# Altium integrated library Renesas Power Management Linear.IntLib: 125 symbols (part 1 of 4)
Pins are listed as number, name and electrical type; pins without a type are passive.

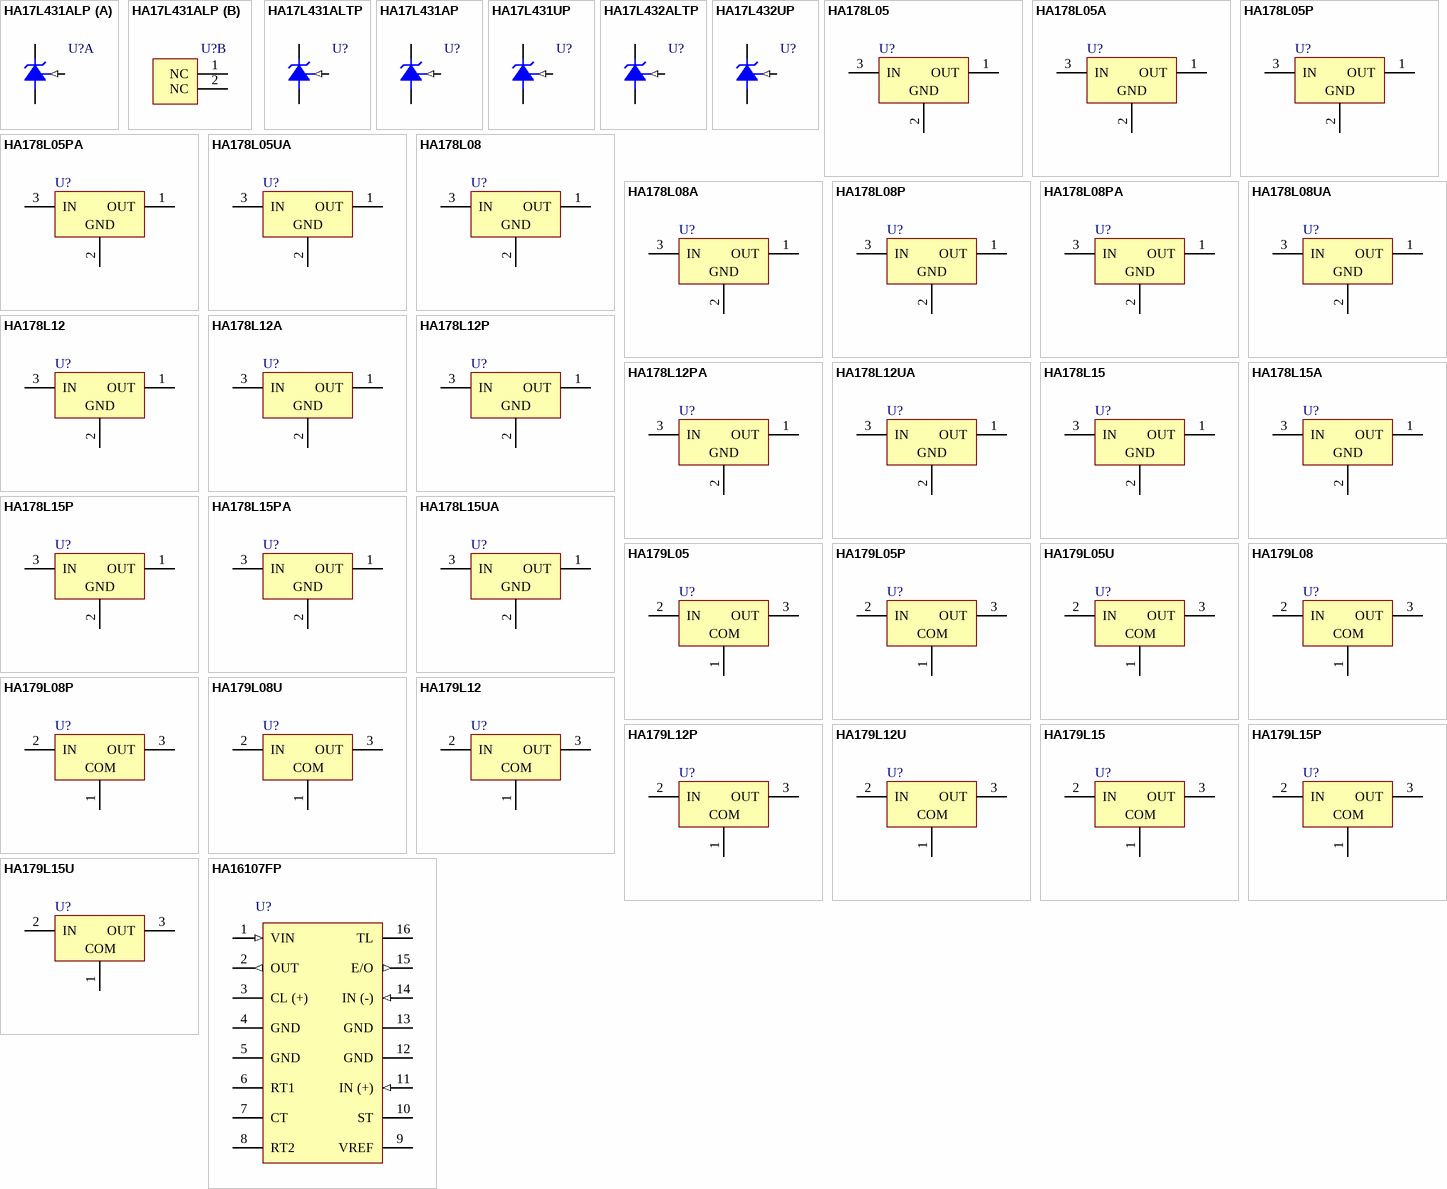
[diagram p0: symbols HA17L431ALP to HA16107FP]

## HA17L431ALP
designator U?
Temperature-Compensated Variable Shunt Regulator, Vref (1.24V ± 1%), VKA (16V), MPAK-5V Package, Industrial Grade; Published: 5-Feb-2010; DatasheetVersion: Rev.6.00, Jun-2005; PackageVersion: Jan-2005; PackageReference: PLSP0005ZB-A; Publisher: Altium Limited; PackageDescription: 5-Lead Plastic Small Outline Transistor, 0.95 mm Pitch, 2.8 mm Lead Span; Code_JEITA: SC-74A; Code_IPC: SOT23-5; ComponentLink1Description: Manufacturer Link; ComponentLink1URL: http://sg.renesas.com/fmwk.jsp?cnt=shunt_regulators_root.jsp&fp=/products/standard_ic/general_purpose_linear/power_management_linear/shunt_regulators/; ComponentLink2Description: Datasheet; ComponentLink2URL: http://documentation.renesas.com/eng/products/linear/rej03d0691_ha17l431.pdf; ComponentLink3Description: Packaging Specification; ComponentLink3URL: http://sg.renesas.com/media/products/common_info/package/pdf/ic/code/plsp0005zb_a.pdf
footprint PLSP0005ZB-A_N (SOT23, 5-Leads, Body 2.95x1.6mm, Pitch 0.95mm, Lead Span 2.7mm, IPC Medium Density)
footprint PLSP0005ZB-A_L (SOT23, 5-Leads, Body 2.95x1.6mm, Pitch 0.95mm, Lead Span 2.7mm, IPC High Density)
footprint PLSP0005ZB-A_M (SOT23, 5-Leads, Body 2.95x1.6mm, Pitch 0.95mm, Lead Span 2.7mm, IPC Low Density)
part A pins: 3 K, 4 REF (in), 5 A
part B pins: 1 NC, 2 NC

## HA17L431ALTP
designator U?
Temperature-Compensated Variable Shunt Regulator, Vref (1.24V ± 1%), VKA (16V), MPAKV Package, Industrial Grade; Published: 5-Feb-2010; DatasheetVersion: Rev.6.00, Jun-2005; PackageVersion: Sep-2005; PackageReference: MPAKV; Publisher: Altium Limited; PackageDescription: 3-Pin Plastic SOT-23 Package 0.95 mm Pitch, 2.8 mm Lead Span (PLSP0003ZB-A); Code_JEITA: SC-59A; ComponentLink1Description: Manufacturer Link; ComponentLink1URL: http://sg.renesas.com/fmwk.jsp?cnt=shunt_regulators_root.jsp&fp=/products/standard_ic/general_purpose_linear/power_management_linear/shunt_regulators/; ComponentLink2Description: Datasheet; ComponentLink2URL: http://documentation.renesas.com/eng/products/linear/rej03d0691_ha17l431.pdf; ComponentLink3Description: Packaging Specification; ComponentLink3URL: http://sg.renesas.com/media/products/common_info/package/pdf/ic/code/plsp0003zb_a.pdf
footprint MPAKV_N (SOT346, 3-Leads, Body 2.9x1.5mm, Pitch 0.95mm, Lead Span 2.8mm, IPC Medium Density)
footprint MPAKV_L (SOT346, 3-Leads, Body 2.9x1.5mm, Pitch 0.95mm, Lead Span 2.8mm, IPC High Density)
footprint MPAKV_M (SOT346, 3-Leads, Body 2.9x1.5mm, Pitch 0.95mm, Lead Span 2.8mm, IPC Low Density)
pins: 1 REF (in), 2 K, 3 A

## HA17L431AP
designator U?
Temperature-Compensated Variable Shunt Regulator, Vref (1.24V ± 1%), VKA (16V), TO-92V Package, Industrial Grade; Published: 5-Feb-2010; DatasheetVersion: Rev.6.00, Jun-2005; PackageVersion: Jan-2005; PackageReference: PRSS0003DA-A; Publisher: Altium Limited; PackageDescription: TO, Flat Index; 3 In-Line, Axial Leads; Body Dia. 4.8mm; Leads 0.55 x 0.5 mm (max); Code_JEITA: SC-43A; ComponentLink1Description: Manufacturer Link; ComponentLink1URL: http://sg.renesas.com/fmwk.jsp?cnt=shunt_regulators_root.jsp&fp=/products/standard_ic/general_purpose_linear/power_management_linear/shunt_regulators/; ComponentLink2Description: Datasheet; ComponentLink2URL: http://documentation.renesas.com/eng/products/linear/rej03d0691_ha17l431.pdf; ComponentLink3Description: Packaging Specification; ComponentLink3URL: http://sg.renesas.com/media/products/common_info/package/pdf/ic/code/prss0003da_a.pdf
footprint PRSS0003DA-A (TO, Flat Index; 3 In-Line, Axial Leads; Body Dia. 4.8mm; Leads 0.55 x 0.5 mm (max))
pins: 1 REF (in), 2 A, 3 K

## HA17L431UP
designator U?
Temperature-Compensated Variable Shunt Regulator, Vref (1.24V ± 1.5%), VKA (16V), UPAKV Package, Industrial Grade; Published: 5-Feb-2010; DatasheetVersion: Rev.6.00, Jun-2005; PackageVersion: Jan-2005; PackageReference: PLZZ0004CA-A; Publisher: Altium Limited; PackageDescription: 3-Pin Plastic SOT-89 Package 1.5 mm Pitch, 4 mm Lead Span; Code_JEITA: SC-62; Code_IPC: SOT89; ComponentLink1Description: Manufacturer Link; ComponentLink1URL: http://sg.renesas.com/fmwk.jsp?cnt=shunt_regulators_root.jsp&fp=/products/standard_ic/general_purpose_linear/power_management_linear/shunt_regulators/; ComponentLink2Description: Datasheet; ComponentLink2URL: http://documentation.renesas.com/eng/products/linear/rej03d0691_ha17l431.pdf; ComponentLink3Description: Packaging Specification; ComponentLink3URL: http://sg.renesas.com/media/products/common_info/package/pdf/ic/code/plzz0004ca_a.pdf
footprint PLZZ0004CA-A_N (SOT89, 3-Leads, Body 4.5x2.5 mm, Pitch 1.5mm, Lead Span 4mm, IPC Medium Density)
footprint PLZZ0004CA-A_L (SOT89, 3-Leads, Body 4.5x2.5 mm, Pitch 1.5mm, Lead Span 4mm, IPC High Density)
footprint PLZZ0004CA-A_M (SOT89, 3-Leads, Body 4.5x2.5 mm, Pitch 1.5mm, Lead Span 4mm, IPC Low Density)
pins: 1 REF (in), 2 A, 3 K

## HA17L432ALTP
designator U?
Temperature-Compensated Variable Shunt Regulator, Vref (1.24V ± 1%), VKA (16V), MPAKV Package, Industrial Grade; Published: 5-Feb-2010; DatasheetVersion: Rev.6.00, Jun-2005; PackageVersion: Sep-2005; PackageReference: MPAKV; Publisher: Altium Limited; PackageDescription: 3-Pin Plastic SOT-23 Package 0.95 mm Pitch, 2.8 mm Lead Span (PLSP0003ZB-A); Code_JEITA: SC-59A; ComponentLink1Description: Manufacturer Link; ComponentLink1URL: http://sg.renesas.com/fmwk.jsp?cnt=shunt_regulators_root.jsp&fp=/products/standard_ic/general_purpose_linear/power_management_linear/shunt_regulators/; ComponentLink2Description: Datasheet; ComponentLink2URL: http://documentation.renesas.com/eng/products/linear/rej03d0691_ha17l431.pdf; ComponentLink3Description: Packaging Specification; ComponentLink3URL: http://sg.renesas.com/media/products/common_info/package/pdf/ic/code/plsp0003zb_a.pdf
footprint MPAKV_N (SOT346, 3-Leads, Body 2.9x1.5mm, Pitch 0.95mm, Lead Span 2.8mm, IPC Medium Density)
footprint MPAKV_L (SOT346, 3-Leads, Body 2.9x1.5mm, Pitch 0.95mm, Lead Span 2.8mm, IPC High Density)
footprint MPAKV_M (SOT346, 3-Leads, Body 2.9x1.5mm, Pitch 0.95mm, Lead Span 2.8mm, IPC Low Density)
pins: 1 K, 2 REF (in), 3 A

## HA17L432UP
designator U?
Temperature-Compensated Variable Shunt Regulator, Vref (1.24V ± 1.5%), VKA (16V), UPAKV Package, Industrial Grade; Published: 5-Feb-2010; DatasheetVersion: Rev.6.00, Jun-2005; PackageVersion: Jan-2005; PackageReference: PLZZ0004CA-A; Publisher: Altium Limited; PackageDescription: 3-Pin Plastic SOT-89 Package 1.5 mm Pitch, 4 mm Lead Span; Code_JEITA: SC-62; Code_IPC: SOT89; ComponentLink1Description: Manufacturer Link; ComponentLink1URL: http://sg.renesas.com/fmwk.jsp?cnt=shunt_regulators_root.jsp&fp=/products/standard_ic/general_purpose_linear/power_management_linear/shunt_regulators/; ComponentLink2Description: Datasheet; ComponentLink2URL: http://documentation.renesas.com/eng/products/linear/rej03d0691_ha17l431.pdf; ComponentLink3Description: Packaging Specification; ComponentLink3URL: http://sg.renesas.com/media/products/common_info/package/pdf/ic/code/plzz0004ca_a.pdf
footprint PLZZ0004CA-A_N (SOT89, 3-Leads, Body 4.5x2.5 mm, Pitch 1.5mm, Lead Span 4mm, IPC Medium Density)
footprint PLZZ0004CA-A_L (SOT89, 3-Leads, Body 4.5x2.5 mm, Pitch 1.5mm, Lead Span 4mm, IPC High Density)
footprint PLZZ0004CA-A_M (SOT89, 3-Leads, Body 4.5x2.5 mm, Pitch 1.5mm, Lead Span 4mm, IPC Low Density)
pins: 1 K, 2 A, 3 REF (in)

## HA178L05
designator U?
3-Terminal Positive Fixed Voltage Regulator, 800mW, 5V ± 8% Output, TO-92MOD Package, Commercial Grade; Published: 5-Feb-2010; DatasheetVersion: Rev.4.00, Jan-2009; PackageVersion: Jan-2005; PackageReference: PRSS0003DC-A; Publisher: Altium Limited; PackageDescription: TO, Flat Index; 3 In-Line, Axial Leads; Body Dia. 4.8mm; Leads 0.55 x 0.5 mm (max); Code_JEITA: SC-51; ComponentLink1Description: Manufacturer Link; ComponentLink1URL: http://sg.renesas.com/fmwk.jsp?cnt=3_terminal_regulators_root.jsp&fp=/products/standard_ic/general_purpose_linear/power_management_linear/3_terminal_regulators/; ComponentLink2Description: Datasheet; ComponentLink2URL: http://documentation.renesas.com/eng/products/linear/rej03d0683_ha178l00.pdf; ComponentLink3Description: Packaging Specification; ComponentLink3URL: http://sg.renesas.com/media/products/common_info/package/pdf/ic/code/prss0003dc_a.pdf
footprint PRSS0003DC-A (TO, Flat Index; 3 In-Line, Axial Leads; Body Dia. 4.8mm; Leads 0.55 x 0.5 mm (max))
pins: 1 OUT, 2 GND (power), 3 IN (power)

## HA178L05A
designator U?
3-Terminal Positive Fixed Voltage Regulator, 800mW, 5V ± 5% Output, TO-92MOD Package, Commercial Grade; Published: 5-Feb-2010; DatasheetVersion: Rev.4.00, Jan-2009; PackageVersion: Jan-2005; PackageReference: PRSS0003DC-A; Publisher: Altium Limited; PackageDescription: TO, Flat Index; 3 In-Line, Axial Leads; Body Dia. 4.8mm; Leads 0.55 x 0.5 mm (max); Code_JEITA: SC-51; ComponentLink1Description: Manufacturer Link; ComponentLink1URL: http://sg.renesas.com/fmwk.jsp?cnt=3_terminal_regulators_root.jsp&fp=/products/standard_ic/general_purpose_linear/power_management_linear/3_terminal_regulators/; ComponentLink2Description: Datasheet; ComponentLink2URL: http://documentation.renesas.com/eng/products/linear/rej03d0683_ha178l00.pdf; ComponentLink3Description: Packaging Specification; ComponentLink3URL: http://sg.renesas.com/media/products/common_info/package/pdf/ic/code/prss0003dc_a.pdf
footprint PRSS0003DC-A (TO, Flat Index; 3 In-Line, Axial Leads; Body Dia. 4.8mm; Leads 0.55 x 0.5 mm (max))
pins: 1 OUT, 2 GND (power), 3 IN (power)

## HA178L05P
designator U?
3-Terminal Positive Fixed Voltage Regulator, 800mW, 5V ± 8% Output, TO-92MOD Package, Industrial Grade; Published: 5-Feb-2010; DatasheetVersion: Rev.4.00, Jan-2009; PackageVersion: Jan-2005; PackageReference: PRSS0003DC-A; Publisher: Altium Limited; PackageDescription: TO, Flat Index; 3 In-Line, Axial Leads; Body Dia. 4.8mm; Leads 0.55 x 0.5 mm (max); Code_JEITA: SC-51; ComponentLink1Description: Manufacturer Link; ComponentLink1URL: http://sg.renesas.com/fmwk.jsp?cnt=3_terminal_regulators_root.jsp&fp=/products/standard_ic/general_purpose_linear/power_management_linear/3_terminal_regulators/; ComponentLink2Description: Datasheet; ComponentLink2URL: http://documentation.renesas.com/eng/products/linear/rej03d0683_ha178l00.pdf; ComponentLink3Description: Packaging Specification; ComponentLink3URL: http://sg.renesas.com/media/products/common_info/package/pdf/ic/code/prss0003dc_a.pdf
footprint PRSS0003DC-A (TO, Flat Index; 3 In-Line, Axial Leads; Body Dia. 4.8mm; Leads 0.55 x 0.5 mm (max))
pins: 1 OUT, 2 GND (power), 3 IN (power)

## HA178L05PA
designator U?
3-Terminal Positive Fixed Voltage Regulator, 800mW, 5V ± 5% Output, TO-92MOD Package, Industrial Grade; Published: 5-Feb-2010; DatasheetVersion: Rev.4.00, Jan-2009; PackageVersion: Jan-2005; PackageReference: PRSS0003DC-A; Publisher: Altium Limited; PackageDescription: TO, Flat Index; 3 In-Line, Axial Leads; Body Dia. 4.8mm; Leads 0.55 x 0.5 mm (max); Code_JEITA: SC-51; ComponentLink1Description: Manufacturer Link; ComponentLink1URL: http://sg.renesas.com/fmwk.jsp?cnt=3_terminal_regulators_root.jsp&fp=/products/standard_ic/general_purpose_linear/power_management_linear/3_terminal_regulators/; ComponentLink2Description: Datasheet; ComponentLink2URL: http://documentation.renesas.com/eng/products/linear/rej03d0683_ha178l00.pdf; ComponentLink3Description: Packaging Specification; ComponentLink3URL: http://sg.renesas.com/media/products/common_info/package/pdf/ic/code/prss0003dc_a.pdf
footprint PRSS0003DC-A (TO, Flat Index; 3 In-Line, Axial Leads; Body Dia. 4.8mm; Leads 0.55 x 0.5 mm (max))
pins: 1 OUT, 2 GND (power), 3 IN (power)

## HA178L05UA
designator U?
3-Terminal Positive Fixed Voltage Regulator, 800mW, 5V ± 5% Output, UPAK Package, Commercial Grade; Published: 5-Feb-2010; DatasheetVersion: Rev.4.00, Jan-2009; PackageVersion: Jan-2005; PackageReference: PLZZ0004CA-A; Publisher: Altium Limited; PackageDescription: 3-Pin Plastic SOT-89 Package 1.5 mm Pitch, 4 mm Lead Span; Code_JEITA: SC-62; Code_IPC: SOT89; ComponentLink1Description: Manufacturer Link; ComponentLink1URL: http://sg.renesas.com/fmwk.jsp?cnt=3_terminal_regulators_root.jsp&fp=/products/standard_ic/general_purpose_linear/power_management_linear/3_terminal_regulators/; ComponentLink2Description: Datasheet; ComponentLink2URL: http://documentation.renesas.com/eng/products/linear/rej03d0683_ha178l00.pdf; ComponentLink3Description: Packaging Specification; ComponentLink3URL: http://sg.renesas.com/media/products/common_info/package/pdf/ic/code/plzz0004ca_a.pdf
footprint PLZZ0004CA-A_N (SOT89, 3-Leads, Body 4.5x2.5 mm, Pitch 1.5mm, Lead Span 4mm, IPC Medium Density)
footprint PLZZ0004CA-A_L (SOT89, 3-Leads, Body 4.5x2.5 mm, Pitch 1.5mm, Lead Span 4mm, IPC High Density)
footprint PLZZ0004CA-A_M (SOT89, 3-Leads, Body 4.5x2.5 mm, Pitch 1.5mm, Lead Span 4mm, IPC Low Density)
pins: 1 OUT, 2 GND (power), 3 IN (power)

## HA178L08
designator U?
3-Terminal Positive Fixed Voltage Regulator, 800mW, 8V ± 8% Output, TO-92MOD Package, Commercial Grade; Published: 5-Feb-2010; DatasheetVersion: Rev.4.00, Jan-2009; PackageVersion: Jan-2005; PackageReference: PRSS0003DC-A; Publisher: Altium Limited; PackageDescription: TO, Flat Index; 3 In-Line, Axial Leads; Body Dia. 4.8mm; Leads 0.55 x 0.5 mm (max); Code_JEITA: SC-51; ComponentLink1Description: Manufacturer Link; ComponentLink1URL: http://sg.renesas.com/fmwk.jsp?cnt=3_terminal_regulators_root.jsp&fp=/products/standard_ic/general_purpose_linear/power_management_linear/3_terminal_regulators/; ComponentLink2Description: Datasheet; ComponentLink2URL: http://documentation.renesas.com/eng/products/linear/rej03d0683_ha178l00.pdf; ComponentLink3Description: Packaging Specification; ComponentLink3URL: http://sg.renesas.com/media/products/common_info/package/pdf/ic/code/prss0003dc_a.pdf
footprint PRSS0003DC-A (TO, Flat Index; 3 In-Line, Axial Leads; Body Dia. 4.8mm; Leads 0.55 x 0.5 mm (max))
pins: 1 OUT, 2 GND (power), 3 IN (power)

## HA178L08A
designator U?
3-Terminal Positive Fixed Voltage Regulator, 800mW, 8V ± 5% Output, TO-92MOD Package, Commercial Grade; Published: 5-Feb-2010; DatasheetVersion: Rev.4.00, Jan-2009; PackageVersion: Jan-2005; PackageReference: PRSS0003DC-A; Publisher: Altium Limited; PackageDescription: TO, Flat Index; 3 In-Line, Axial Leads; Body Dia. 4.8mm; Leads 0.55 x 0.5 mm (max); Code_JEITA: SC-51; ComponentLink1Description: Manufacturer Link; ComponentLink1URL: http://sg.renesas.com/fmwk.jsp?cnt=3_terminal_regulators_root.jsp&fp=/products/standard_ic/general_purpose_linear/power_management_linear/3_terminal_regulators/; ComponentLink2Description: Datasheet; ComponentLink2URL: http://documentation.renesas.com/eng/products/linear/rej03d0683_ha178l00.pdf; ComponentLink3Description: Packaging Specification; ComponentLink3URL: http://sg.renesas.com/media/products/common_info/package/pdf/ic/code/prss0003dc_a.pdf
footprint PRSS0003DC-A (TO, Flat Index; 3 In-Line, Axial Leads; Body Dia. 4.8mm; Leads 0.55 x 0.5 mm (max))
pins: 1 OUT, 2 GND (power), 3 IN (power)

## HA178L08P
designator U?
3-Terminal Positive Fixed Voltage Regulator, 800mW, 8V ± 8% Output, TO-92MOD Package, Industrial Grade; Published: 5-Feb-2010; DatasheetVersion: Rev.4.00, Jan-2009; PackageVersion: Jan-2005; PackageReference: PRSS0003DC-A; Publisher: Altium Limited; PackageDescription: TO, Flat Index; 3 In-Line, Axial Leads; Body Dia. 4.8mm; Leads 0.55 x 0.5 mm (max); Code_JEITA: SC-51; ComponentLink1Description: Manufacturer Link; ComponentLink1URL: http://sg.renesas.com/fmwk.jsp?cnt=3_terminal_regulators_root.jsp&fp=/products/standard_ic/general_purpose_linear/power_management_linear/3_terminal_regulators/; ComponentLink2Description: Datasheet; ComponentLink2URL: http://documentation.renesas.com/eng/products/linear/rej03d0683_ha178l00.pdf; ComponentLink3Description: Packaging Specification; ComponentLink3URL: http://sg.renesas.com/media/products/common_info/package/pdf/ic/code/prss0003dc_a.pdf
footprint PRSS0003DC-A (TO, Flat Index; 3 In-Line, Axial Leads; Body Dia. 4.8mm; Leads 0.55 x 0.5 mm (max))
pins: 1 OUT, 2 GND (power), 3 IN (power)

## HA178L08PA
designator U?
3-Terminal Positive Fixed Voltage Regulator, 800mW, 8V ± 5% Output, TO-92MOD Package, Industrial Grade; Published: 5-Feb-2010; DatasheetVersion: Rev.4.00, Jan-2009; PackageVersion: Jan-2005; PackageReference: PRSS0003DC-A; Publisher: Altium Limited; PackageDescription: TO, Flat Index; 3 In-Line, Axial Leads; Body Dia. 4.8mm; Leads 0.55 x 0.5 mm (max); Code_JEITA: SC-51; ComponentLink1Description: Manufacturer Link; ComponentLink1URL: http://sg.renesas.com/fmwk.jsp?cnt=3_terminal_regulators_root.jsp&fp=/products/standard_ic/general_purpose_linear/power_management_linear/3_terminal_regulators/; ComponentLink2Description: Datasheet; ComponentLink2URL: http://documentation.renesas.com/eng/products/linear/rej03d0683_ha178l00.pdf; ComponentLink3Description: Packaging Specification; ComponentLink3URL: http://sg.renesas.com/media/products/common_info/package/pdf/ic/code/prss0003dc_a.pdf
footprint PRSS0003DC-A (TO, Flat Index; 3 In-Line, Axial Leads; Body Dia. 4.8mm; Leads 0.55 x 0.5 mm (max))
pins: 1 OUT, 2 GND (power), 3 IN (power)

## HA178L08UA
designator U?
3-Terminal Positive Fixed Voltage Regulator, 800mW, 8V ± 5% Output, UPAK Package, Commercial Grade; Published: 5-Feb-2010; DatasheetVersion: Rev.4.00, Jan-2009; PackageVersion: Jan-2005; PackageReference: PLZZ0004CA-A; Publisher: Altium Limited; PackageDescription: 3-Pin Plastic SOT-89 Package 1.5 mm Pitch, 4 mm Lead Span; Code_JEITA: SC-62; Code_IPC: SOT89; ComponentLink1Description: Manufacturer Link; ComponentLink1URL: http://sg.renesas.com/fmwk.jsp?cnt=3_terminal_regulators_root.jsp&fp=/products/standard_ic/general_purpose_linear/power_management_linear/3_terminal_regulators/; ComponentLink2Description: Datasheet; ComponentLink2URL: http://documentation.renesas.com/eng/products/linear/rej03d0683_ha178l00.pdf; ComponentLink3Description: Packaging Specification; ComponentLink3URL: http://sg.renesas.com/media/products/common_info/package/pdf/ic/code/plzz0004ca_a.pdf
footprint PLZZ0004CA-A_N (SOT89, 3-Leads, Body 4.5x2.5 mm, Pitch 1.5mm, Lead Span 4mm, IPC Medium Density)
footprint PLZZ0004CA-A_L (SOT89, 3-Leads, Body 4.5x2.5 mm, Pitch 1.5mm, Lead Span 4mm, IPC High Density)
footprint PLZZ0004CA-A_M (SOT89, 3-Leads, Body 4.5x2.5 mm, Pitch 1.5mm, Lead Span 4mm, IPC Low Density)
pins: 1 OUT, 2 GND (power), 3 IN (power)

## HA178L12
designator U?
3-Terminal Positive Fixed Voltage Regulator, 800mW, 12V ± 8% Output, TO-92MOD Package, Commercial Grade; Published: 5-Feb-2010; DatasheetVersion: Rev.4.00, Jan-2009; PackageVersion: Jan-2005; PackageReference: PRSS0003DC-A; Publisher: Altium Limited; PackageDescription: TO, Flat Index; 3 In-Line, Axial Leads; Body Dia. 4.8mm; Leads 0.55 x 0.5 mm (max); Code_JEITA: SC-51; ComponentLink1Description: Manufacturer Link; ComponentLink1URL: http://sg.renesas.com/fmwk.jsp?cnt=3_terminal_regulators_root.jsp&fp=/products/standard_ic/general_purpose_linear/power_management_linear/3_terminal_regulators/; ComponentLink2Description: Datasheet; ComponentLink2URL: http://documentation.renesas.com/eng/products/linear/rej03d0683_ha178l00.pdf; ComponentLink3Description: Packaging Specification; ComponentLink3URL: http://sg.renesas.com/media/products/common_info/package/pdf/ic/code/prss0003dc_a.pdf
footprint PRSS0003DC-A (TO, Flat Index; 3 In-Line, Axial Leads; Body Dia. 4.8mm; Leads 0.55 x 0.5 mm (max))
pins: 1 OUT, 2 GND (power), 3 IN (power)

## HA178L12A
designator U?
3-Terminal Positive Fixed Voltage Regulator, 800mW, 12V ± 5% Output, TO-92MOD Package, Commercial Grade; Published: 5-Feb-2010; DatasheetVersion: Rev.4.00, Jan-2009; PackageVersion: Jan-2005; PackageReference: PRSS0003DC-A; Publisher: Altium Limited; PackageDescription: TO, Flat Index; 3 In-Line, Axial Leads; Body Dia. 4.8mm; Leads 0.55 x 0.5 mm (max); Code_JEITA: SC-51; ComponentLink1Description: Manufacturer Link; ComponentLink1URL: http://sg.renesas.com/fmwk.jsp?cnt=3_terminal_regulators_root.jsp&fp=/products/standard_ic/general_purpose_linear/power_management_linear/3_terminal_regulators/; ComponentLink2Description: Datasheet; ComponentLink2URL: http://documentation.renesas.com/eng/products/linear/rej03d0683_ha178l00.pdf; ComponentLink3Description: Packaging Specification; ComponentLink3URL: http://sg.renesas.com/media/products/common_info/package/pdf/ic/code/prss0003dc_a.pdf
footprint PRSS0003DC-A (TO, Flat Index; 3 In-Line, Axial Leads; Body Dia. 4.8mm; Leads 0.55 x 0.5 mm (max))
pins: 1 OUT, 2 GND (power), 3 IN (power)

## HA178L12P
designator U?
3-Terminal Positive Fixed Voltage Regulator, 800mW, 12V ± 8% Output, TO-92MOD Package, Industrial Grade; Published: 5-Feb-2010; DatasheetVersion: Rev.4.00, Jan-2009; PackageVersion: Jan-2005; PackageReference: PRSS0003DC-A; Publisher: Altium Limited; PackageDescription: TO, Flat Index; 3 In-Line, Axial Leads; Body Dia. 4.8mm; Leads 0.55 x 0.5 mm (max); Code_JEITA: SC-51; ComponentLink1Description: Manufacturer Link; ComponentLink1URL: http://sg.renesas.com/fmwk.jsp?cnt=3_terminal_regulators_root.jsp&fp=/products/standard_ic/general_purpose_linear/power_management_linear/3_terminal_regulators/; ComponentLink2Description: Datasheet; ComponentLink2URL: http://documentation.renesas.com/eng/products/linear/rej03d0683_ha178l00.pdf; ComponentLink3Description: Packaging Specification; ComponentLink3URL: http://sg.renesas.com/media/products/common_info/package/pdf/ic/code/prss0003dc_a.pdf
footprint PRSS0003DC-A (TO, Flat Index; 3 In-Line, Axial Leads; Body Dia. 4.8mm; Leads 0.55 x 0.5 mm (max))
pins: 1 OUT, 2 GND (power), 3 IN (power)

## HA178L12PA
designator U?
3-Terminal Positive Fixed Voltage Regulator, 800mW, 12V ± 5% Output, TO-92MOD Package, Industrial Grade; Published: 5-Feb-2010; DatasheetVersion: Rev.4.00, Jan-2009; PackageVersion: Jan-2005; PackageReference: PRSS0003DC-A; Publisher: Altium Limited; PackageDescription: TO, Flat Index; 3 In-Line, Axial Leads; Body Dia. 4.8mm; Leads 0.55 x 0.5 mm (max); Code_JEITA: SC-51; ComponentLink1Description: Manufacturer Link; ComponentLink1URL: http://sg.renesas.com/fmwk.jsp?cnt=3_terminal_regulators_root.jsp&fp=/products/standard_ic/general_purpose_linear/power_management_linear/3_terminal_regulators/; ComponentLink2Description: Datasheet; ComponentLink2URL: http://documentation.renesas.com/eng/products/linear/rej03d0683_ha178l00.pdf; ComponentLink3Description: Packaging Specification; ComponentLink3URL: http://sg.renesas.com/media/products/common_info/package/pdf/ic/code/prss0003dc_a.pdf
footprint PRSS0003DC-A (TO, Flat Index; 3 In-Line, Axial Leads; Body Dia. 4.8mm; Leads 0.55 x 0.5 mm (max))
pins: 1 OUT, 2 GND (power), 3 IN (power)

## HA178L12UA
designator U?
3-Terminal Positive Fixed Voltage Regulator, 800mW, 12V ± 5% Output, UPAK Package, Commercial Grade; Published: 5-Feb-2010; DatasheetVersion: Rev.4.00, Jan-2009; PackageVersion: Jan-2005; PackageReference: PLZZ0004CA-A; Publisher: Altium Limited; PackageDescription: 3-Pin Plastic SOT-89 Package 1.5 mm Pitch, 4 mm Lead Span; Code_JEITA: SC-62; Code_IPC: SOT89; ComponentLink1Description: Manufacturer Link; ComponentLink1URL: http://sg.renesas.com/fmwk.jsp?cnt=3_terminal_regulators_root.jsp&fp=/products/standard_ic/general_purpose_linear/power_management_linear/3_terminal_regulators/; ComponentLink2Description: Datasheet; ComponentLink2URL: http://documentation.renesas.com/eng/products/linear/rej03d0683_ha178l00.pdf; ComponentLink3Description: Packaging Specification; ComponentLink3URL: http://sg.renesas.com/media/products/common_info/package/pdf/ic/code/plzz0004ca_a.pdf
footprint PLZZ0004CA-A_N (SOT89, 3-Leads, Body 4.5x2.5 mm, Pitch 1.5mm, Lead Span 4mm, IPC Medium Density)
footprint PLZZ0004CA-A_L (SOT89, 3-Leads, Body 4.5x2.5 mm, Pitch 1.5mm, Lead Span 4mm, IPC High Density)
footprint PLZZ0004CA-A_M (SOT89, 3-Leads, Body 4.5x2.5 mm, Pitch 1.5mm, Lead Span 4mm, IPC Low Density)
pins: 1 OUT, 2 GND (power), 3 IN (power)

## HA178L15
designator U?
3-Terminal Positive Fixed Voltage Regulator, 800mW, 15V ± 8% Output, TO-92MOD Package, Commercial Grade; Published: 5-Feb-2010; DatasheetVersion: Rev.4.00, Jan-2009; PackageVersion: Jan-2005; PackageReference: PRSS0003DC-A; Publisher: Altium Limited; PackageDescription: TO, Flat Index; 3 In-Line, Axial Leads; Body Dia. 4.8mm; Leads 0.55 x 0.5 mm (max); Code_JEITA: SC-51; ComponentLink1Description: Manufacturer Link; ComponentLink1URL: http://sg.renesas.com/fmwk.jsp?cnt=3_terminal_regulators_root.jsp&fp=/products/standard_ic/general_purpose_linear/power_management_linear/3_terminal_regulators/; ComponentLink2Description: Datasheet; ComponentLink2URL: http://documentation.renesas.com/eng/products/linear/rej03d0683_ha178l00.pdf; ComponentLink3Description: Packaging Specification; ComponentLink3URL: http://sg.renesas.com/media/products/common_info/package/pdf/ic/code/prss0003dc_a.pdf
footprint PRSS0003DC-A (TO, Flat Index; 3 In-Line, Axial Leads; Body Dia. 4.8mm; Leads 0.55 x 0.5 mm (max))
pins: 1 OUT, 2 GND (power), 3 IN (power)

## HA178L15A
designator U?
3-Terminal Positive Fixed Voltage Regulator, 800mW, 15V ± 5% Output, TO-92MOD Package, Commercial Grade; Published: 5-Feb-2010; DatasheetVersion: Rev.4.00, Jan-2009; PackageVersion: Jan-2005; PackageReference: PRSS0003DC-A; Publisher: Altium Limited; PackageDescription: TO, Flat Index; 3 In-Line, Axial Leads; Body Dia. 4.8mm; Leads 0.55 x 0.5 mm (max); Code_JEITA: SC-51; ComponentLink1Description: Manufacturer Link; ComponentLink1URL: http://sg.renesas.com/fmwk.jsp?cnt=3_terminal_regulators_root.jsp&fp=/products/standard_ic/general_purpose_linear/power_management_linear/3_terminal_regulators/; ComponentLink2Description: Datasheet; ComponentLink2URL: http://documentation.renesas.com/eng/products/linear/rej03d0683_ha178l00.pdf; ComponentLink3Description: Packaging Specification; ComponentLink3URL: http://sg.renesas.com/media/products/common_info/package/pdf/ic/code/prss0003dc_a.pdf
footprint PRSS0003DC-A (TO, Flat Index; 3 In-Line, Axial Leads; Body Dia. 4.8mm; Leads 0.55 x 0.5 mm (max))
pins: 1 OUT, 2 GND (power), 3 IN (power)

## HA178L15P
designator U?
3-Terminal Positive Fixed Voltage Regulator, 800mW, 15V ± 8% Output, TO-92MOD Package, Industrial Grade; Published: 5-Feb-2010; DatasheetVersion: Rev.4.00, Jan-2009; PackageVersion: Jan-2005; PackageReference: PRSS0003DC-A; Publisher: Altium Limited; PackageDescription: TO, Flat Index; 3 In-Line, Axial Leads; Body Dia. 4.8mm; Leads 0.55 x 0.5 mm (max); Code_JEITA: SC-51; ComponentLink1Description: Manufacturer Link; ComponentLink1URL: http://sg.renesas.com/fmwk.jsp?cnt=3_terminal_regulators_root.jsp&fp=/products/standard_ic/general_purpose_linear/power_management_linear/3_terminal_regulators/; ComponentLink2Description: Datasheet; ComponentLink2URL: http://documentation.renesas.com/eng/products/linear/rej03d0683_ha178l00.pdf; ComponentLink3Description: Packaging Specification; ComponentLink3URL: http://sg.renesas.com/media/products/common_info/package/pdf/ic/code/prss0003dc_a.pdf
footprint PRSS0003DC-A (TO, Flat Index; 3 In-Line, Axial Leads; Body Dia. 4.8mm; Leads 0.55 x 0.5 mm (max))
pins: 1 OUT, 2 GND (power), 3 IN (power)

## HA178L15PA
designator U?
3-Terminal Positive Fixed Voltage Regulator, 800mW, 15V ± 5% Output, TO-92MOD Package, Industrial Grade; Published: 5-Feb-2010; DatasheetVersion: Rev.4.00, Jan-2009; PackageVersion: Jan-2005; PackageReference: PRSS0003DC-A; Publisher: Altium Limited; PackageDescription: TO, Flat Index; 3 In-Line, Axial Leads; Body Dia. 4.8mm; Leads 0.55 x 0.5 mm (max); Code_JEITA: SC-51; ComponentLink1Description: Manufacturer Link; ComponentLink1URL: http://sg.renesas.com/fmwk.jsp?cnt=3_terminal_regulators_root.jsp&fp=/products/standard_ic/general_purpose_linear/power_management_linear/3_terminal_regulators/; ComponentLink2Description: Datasheet; ComponentLink2URL: http://documentation.renesas.com/eng/products/linear/rej03d0683_ha178l00.pdf; ComponentLink3Description: Packaging Specification; ComponentLink3URL: http://sg.renesas.com/media/products/common_info/package/pdf/ic/code/prss0003dc_a.pdf
footprint PRSS0003DC-A (TO, Flat Index; 3 In-Line, Axial Leads; Body Dia. 4.8mm; Leads 0.55 x 0.5 mm (max))
pins: 1 OUT, 2 GND (power), 3 IN (power)

## HA178L15UA
designator U?
3-Terminal Positive Fixed Voltage Regulator, 800mW, 15V ± 5% Output, UPAK Package, Commercial Grade; Published: 5-Feb-2010; DatasheetVersion: Rev.4.00, Jan-2009; PackageVersion: Jan-2005; PackageReference: PLZZ0004CA-A; Publisher: Altium Limited; PackageDescription: 3-Pin Plastic SOT-89 Package 1.5 mm Pitch, 4 mm Lead Span; Code_JEITA: SC-62; Code_IPC: SOT89; ComponentLink1Description: Manufacturer Link; ComponentLink1URL: http://sg.renesas.com/fmwk.jsp?cnt=3_terminal_regulators_root.jsp&fp=/products/standard_ic/general_purpose_linear/power_management_linear/3_terminal_regulators/; ComponentLink2Description: Datasheet; ComponentLink2URL: http://documentation.renesas.com/eng/products/linear/rej03d0683_ha178l00.pdf; ComponentLink3Description: Packaging Specification; ComponentLink3URL: http://sg.renesas.com/media/products/common_info/package/pdf/ic/code/plzz0004ca_a.pdf
footprint PLZZ0004CA-A_N (SOT89, 3-Leads, Body 4.5x2.5 mm, Pitch 1.5mm, Lead Span 4mm, IPC Medium Density)
footprint PLZZ0004CA-A_L (SOT89, 3-Leads, Body 4.5x2.5 mm, Pitch 1.5mm, Lead Span 4mm, IPC High Density)
footprint PLZZ0004CA-A_M (SOT89, 3-Leads, Body 4.5x2.5 mm, Pitch 1.5mm, Lead Span 4mm, IPC Low Density)
pins: 1 OUT, 2 GND (power), 3 IN (power)

## HA179L05
designator U?
3-Terminal Positive Fixed Voltage Regulator, 800mW, -5V ± 4% Output, TO-92MOD Package, Commercial Grade; Published: 5-Feb-2010; DatasheetVersion: Rev.3.00, Jan-2009; PackageVersion: Jan-2005; PackageReference: PRSS0003DC-A; Publisher: Altium Limited; PackageDescription: TO, Flat Index; 3 In-Line, Axial Leads; Body Dia. 4.8mm; Leads 0.55 x 0.5 mm (max); Code_JEITA: SC-51; ComponentLink1Description: Manufacturer Link; ComponentLink1URL: http://sg.renesas.com/fmwk.jsp?cnt=3_terminal_regulators_root.jsp&fp=/products/standard_ic/general_purpose_linear/power_management_linear/3_terminal_regulators/; ComponentLink2Description: Datasheet; ComponentLink2URL: http://documentation.renesas.com/eng/products/linear/rej03d0690_ha179l00.pdf; ComponentLink3Description: Packaging Specification; ComponentLink3URL: http://sg.renesas.com/media/products/common_info/package/pdf/ic/code/prss0003dc_a.pdf
footprint PRSS0003DC-A (TO, Flat Index; 3 In-Line, Axial Leads; Body Dia. 4.8mm; Leads 0.55 x 0.5 mm (max))
pins: 1 Common (power), 2 IN (power), 3 OUT
text: COM

## HA179L05P
designator U?
3-Terminal Positive Fixed Voltage Regulator, 800mW, -5V ± 4% Output, TO-92MOD Package, Industrial Grade; Published: 5-Feb-2010; DatasheetVersion: Rev.3.00, Jan-2009; PackageVersion: Jan-2005; PackageReference: PRSS0003DC-A; Publisher: Altium Limited; PackageDescription: TO, Flat Index; 3 In-Line, Axial Leads; Body Dia. 4.8mm; Leads 0.55 x 0.5 mm (max); Code_JEITA: SC-51; ComponentLink1Description: Manufacturer Link; ComponentLink1URL: http://sg.renesas.com/fmwk.jsp?cnt=3_terminal_regulators_root.jsp&fp=/products/standard_ic/general_purpose_linear/power_management_linear/3_terminal_regulators/; ComponentLink2Description: Datasheet; ComponentLink2URL: http://documentation.renesas.com/eng/products/linear/rej03d0690_ha179l00.pdf; ComponentLink3Description: Packaging Specification; ComponentLink3URL: http://sg.renesas.com/media/products/common_info/package/pdf/ic/code/prss0003dc_a.pdf
footprint PRSS0003DC-A (TO, Flat Index; 3 In-Line, Axial Leads; Body Dia. 4.8mm; Leads 0.55 x 0.5 mm (max))
pins: 1 Common (power), 2 IN (power), 3 OUT
text: COM

## HA179L05U
designator U?
3-Terminal Positive Fixed Voltage Regulator, 800mW, -5V ± 4% Output, UPAK Package, Commercial Grade; Published: 5-Feb-2010; DatasheetVersion: Rev.3.00, Jan-2009; PackageVersion: Jan-2005; PackageReference: PLZZ0004CA-A; Publisher: Altium Limited; PackageDescription: 3-Pin Plastic SOT-89 Package 1.5 mm Pitch, 4 mm Lead Span; Code_JEITA: SC-62; Code_IPC: SOT89; ComponentLink1Description: Manufacturer Link; ComponentLink1URL: http://sg.renesas.com/fmwk.jsp?cnt=3_terminal_regulators_root.jsp&fp=/products/standard_ic/general_purpose_linear/power_management_linear/3_terminal_regulators/; ComponentLink2Description: Datasheet; ComponentLink2URL: http://documentation.renesas.com/eng/products/linear/rej03d0690_ha179l00.pdf; ComponentLink3Description: Packaging Specification; ComponentLink3URL: http://sg.renesas.com/media/products/common_info/package/pdf/ic/code/plzz0004ca_a.pdf
footprint PLZZ0004CA-A_N (SOT89, 3-Leads, Body 4.5x2.5 mm, Pitch 1.5mm, Lead Span 4mm, IPC Medium Density)
footprint PLZZ0004CA-A_L (SOT89, 3-Leads, Body 4.5x2.5 mm, Pitch 1.5mm, Lead Span 4mm, IPC High Density)
footprint PLZZ0004CA-A_M (SOT89, 3-Leads, Body 4.5x2.5 mm, Pitch 1.5mm, Lead Span 4mm, IPC Low Density)
pins: 1 Common (power), 2 IN (power), 3 OUT
text: COM

## HA179L08
designator U?
3-Terminal Positive Fixed Voltage Regulator, 800mW, -8V ± 4% Output, TO-92MOD Package, Commercial Grade; Published: 5-Feb-2010; DatasheetVersion: Rev.3.00, Jan-2009; PackageVersion: Jan-2005; PackageReference: PRSS0003DC-A; Publisher: Altium Limited; PackageDescription: TO, Flat Index; 3 In-Line, Axial Leads; Body Dia. 4.8mm; Leads 0.55 x 0.5 mm (max); Code_JEITA: SC-51; ComponentLink1Description: Manufacturer Link; ComponentLink1URL: http://sg.renesas.com/fmwk.jsp?cnt=3_terminal_regulators_root.jsp&fp=/products/standard_ic/general_purpose_linear/power_management_linear/3_terminal_regulators/; ComponentLink2Description: Datasheet; ComponentLink2URL: http://documentation.renesas.com/eng/products/linear/rej03d0690_ha179l00.pdf; ComponentLink3Description: Packaging Specification; ComponentLink3URL: http://sg.renesas.com/media/products/common_info/package/pdf/ic/code/prss0003dc_a.pdf
footprint PRSS0003DC-A (TO, Flat Index; 3 In-Line, Axial Leads; Body Dia. 4.8mm; Leads 0.55 x 0.5 mm (max))
pins: 1 Common (power), 2 IN (power), 3 OUT
text: COM

## HA179L08P
designator U?
3-Terminal Positive Fixed Voltage Regulator, 800mW, -8V ± 4% Output, TO-92MOD Package, Industrial Grade; Published: 5-Feb-2010; DatasheetVersion: Rev.3.00, Jan-2009; PackageVersion: Jan-2005; PackageReference: PRSS0003DC-A; Publisher: Altium Limited; PackageDescription: TO, Flat Index; 3 In-Line, Axial Leads; Body Dia. 4.8mm; Leads 0.55 x 0.5 mm (max); Code_JEITA: SC-51; ComponentLink1Description: Manufacturer Link; ComponentLink1URL: http://sg.renesas.com/fmwk.jsp?cnt=3_terminal_regulators_root.jsp&fp=/products/standard_ic/general_purpose_linear/power_management_linear/3_terminal_regulators/; ComponentLink2Description: Datasheet; ComponentLink2URL: http://documentation.renesas.com/eng/products/linear/rej03d0690_ha179l00.pdf; ComponentLink3Description: Packaging Specification; ComponentLink3URL: http://sg.renesas.com/media/products/common_info/package/pdf/ic/code/prss0003dc_a.pdf
footprint PRSS0003DC-A (TO, Flat Index; 3 In-Line, Axial Leads; Body Dia. 4.8mm; Leads 0.55 x 0.5 mm (max))
pins: 1 Common (power), 2 IN (power), 3 OUT
text: COM

## HA179L08U
designator U?
3-Terminal Positive Fixed Voltage Regulator, 800mW, -8V ± 4% Output, UPAK Package, Commercial Grade; Published: 5-Feb-2010; DatasheetVersion: Rev.3.00, Jan-2009; PackageVersion: Jan-2005; PackageReference: PLZZ0004CA-A; Publisher: Altium Limited; PackageDescription: 3-Pin Plastic SOT-89 Package 1.5 mm Pitch, 4 mm Lead Span; Code_JEITA: SC-62; Code_IPC: SOT89; ComponentLink1Description: Manufacturer Link; ComponentLink1URL: http://sg.renesas.com/fmwk.jsp?cnt=3_terminal_regulators_root.jsp&fp=/products/standard_ic/general_purpose_linear/power_management_linear/3_terminal_regulators/; ComponentLink2Description: Datasheet; ComponentLink2URL: http://documentation.renesas.com/eng/products/linear/rej03d0690_ha179l00.pdf; ComponentLink3Description: Packaging Specification; ComponentLink3URL: http://sg.renesas.com/media/products/common_info/package/pdf/ic/code/plzz0004ca_a.pdf
footprint PLZZ0004CA-A_N (SOT89, 3-Leads, Body 4.5x2.5 mm, Pitch 1.5mm, Lead Span 4mm, IPC Medium Density)
footprint PLZZ0004CA-A_L (SOT89, 3-Leads, Body 4.5x2.5 mm, Pitch 1.5mm, Lead Span 4mm, IPC High Density)
footprint PLZZ0004CA-A_M (SOT89, 3-Leads, Body 4.5x2.5 mm, Pitch 1.5mm, Lead Span 4mm, IPC Low Density)
pins: 1 Common (power), 2 IN (power), 3 OUT
text: COM

## HA179L12
designator U?
3-Terminal Positive Fixed Voltage Regulator, 800mW, -12V ± 4% Output, TO-92MOD Package, Commercial Grade; Published: 5-Feb-2010; DatasheetVersion: Rev.3.00, Jan-2009; PackageVersion: Jan-2005; PackageReference: PRSS0003DC-A; Publisher: Altium Limited; PackageDescription: TO, Flat Index; 3 In-Line, Axial Leads; Body Dia. 4.8mm; Leads 0.55 x 0.5 mm (max); Code_JEITA: SC-51; ComponentLink1Description: Manufacturer Link; ComponentLink1URL: http://sg.renesas.com/fmwk.jsp?cnt=3_terminal_regulators_root.jsp&fp=/products/standard_ic/general_purpose_linear/power_management_linear/3_terminal_regulators/; ComponentLink2Description: Datasheet; ComponentLink2URL: http://documentation.renesas.com/eng/products/linear/rej03d0690_ha179l00.pdf; ComponentLink3Description: Packaging Specification; ComponentLink3URL: http://sg.renesas.com/media/products/common_info/package/pdf/ic/code/prss0003dc_a.pdf
footprint PRSS0003DC-A (TO, Flat Index; 3 In-Line, Axial Leads; Body Dia. 4.8mm; Leads 0.55 x 0.5 mm (max))
pins: 1 Common (power), 2 IN (power), 3 OUT
text: COM

## HA179L12P
designator U?
3-Terminal Positive Fixed Voltage Regulator, 800mW, -12V ± 4% Output, TO-92MOD Package, Industrial Grade; Published: 5-Feb-2010; DatasheetVersion: Rev.3.00, Jan-2009; PackageVersion: Jan-2005; PackageReference: PRSS0003DC-A; Publisher: Altium Limited; PackageDescription: TO, Flat Index; 3 In-Line, Axial Leads; Body Dia. 4.8mm; Leads 0.55 x 0.5 mm (max); Code_JEITA: SC-51; ComponentLink1Description: Manufacturer Link; ComponentLink1URL: http://sg.renesas.com/fmwk.jsp?cnt=3_terminal_regulators_root.jsp&fp=/products/standard_ic/general_purpose_linear/power_management_linear/3_terminal_regulators/; ComponentLink2Description: Datasheet; ComponentLink2URL: http://documentation.renesas.com/eng/products/linear/rej03d0690_ha179l00.pdf; ComponentLink3Description: Packaging Specification; ComponentLink3URL: http://sg.renesas.com/media/products/common_info/package/pdf/ic/code/prss0003dc_a.pdf
footprint PRSS0003DC-A (TO, Flat Index; 3 In-Line, Axial Leads; Body Dia. 4.8mm; Leads 0.55 x 0.5 mm (max))
pins: 1 Common (power), 2 IN (power), 3 OUT
text: COM

## HA179L12U
designator U?
3-Terminal Positive Fixed Voltage Regulator, 800mW, -12V ± 4% Output, UPAK Package, Commercial Grade; Published: 5-Feb-2010; DatasheetVersion: Rev.3.00, Jan-2009; PackageVersion: Jan-2005; PackageReference: PLZZ0004CA-A; Publisher: Altium Limited; PackageDescription: 3-Pin Plastic SOT-89 Package 1.5 mm Pitch, 4 mm Lead Span; Code_JEITA: SC-62; Code_IPC: SOT89; ComponentLink1Description: Manufacturer Link; ComponentLink1URL: http://sg.renesas.com/fmwk.jsp?cnt=3_terminal_regulators_root.jsp&fp=/products/standard_ic/general_purpose_linear/power_management_linear/3_terminal_regulators/; ComponentLink2Description: Datasheet; ComponentLink2URL: http://documentation.renesas.com/eng/products/linear/rej03d0690_ha179l00.pdf; ComponentLink3Description: Packaging Specification; ComponentLink3URL: http://sg.renesas.com/media/products/common_info/package/pdf/ic/code/plzz0004ca_a.pdf
footprint PLZZ0004CA-A_N (SOT89, 3-Leads, Body 4.5x2.5 mm, Pitch 1.5mm, Lead Span 4mm, IPC Medium Density)
footprint PLZZ0004CA-A_L (SOT89, 3-Leads, Body 4.5x2.5 mm, Pitch 1.5mm, Lead Span 4mm, IPC High Density)
footprint PLZZ0004CA-A_M (SOT89, 3-Leads, Body 4.5x2.5 mm, Pitch 1.5mm, Lead Span 4mm, IPC Low Density)
pins: 1 Common (power), 2 IN (power), 3 OUT
text: COM

## HA179L15
designator U?
3-Terminal Positive Fixed Voltage Regulator, 800mW, -15V ± 4% Output, TO-92MOD Package, Commercial Grade; Published: 5-Feb-2010; DatasheetVersion: Rev.3.00, Jan-2009; PackageVersion: Jan-2005; PackageReference: PRSS0003DC-A; Publisher: Altium Limited; PackageDescription: TO, Flat Index; 3 In-Line, Axial Leads; Body Dia. 4.8mm; Leads 0.55 x 0.5 mm (max); Code_JEITA: SC-51; ComponentLink1Description: Manufacturer Link; ComponentLink1URL: http://sg.renesas.com/fmwk.jsp?cnt=3_terminal_regulators_root.jsp&fp=/products/standard_ic/general_purpose_linear/power_management_linear/3_terminal_regulators/; ComponentLink2Description: Datasheet; ComponentLink2URL: http://documentation.renesas.com/eng/products/linear/rej03d0690_ha179l00.pdf; ComponentLink3Description: Packaging Specification; ComponentLink3URL: http://sg.renesas.com/media/products/common_info/package/pdf/ic/code/prss0003dc_a.pdf
footprint PRSS0003DC-A (TO, Flat Index; 3 In-Line, Axial Leads; Body Dia. 4.8mm; Leads 0.55 x 0.5 mm (max))
pins: 1 Common (power), 2 IN (power), 3 OUT
text: COM

## HA179L15P
designator U?
3-Terminal Positive Fixed Voltage Regulator, 800mW, -15V ± 4% Output, TO-92MOD Package, Industrial Grade; Published: 5-Feb-2010; DatasheetVersion: Rev.3.00, Jan-2009; PackageVersion: Jan-2005; PackageReference: PRSS0003DC-A; Publisher: Altium Limited; PackageDescription: TO, Flat Index; 3 In-Line, Axial Leads; Body Dia. 4.8mm; Leads 0.55 x 0.5 mm (max); Code_JEITA: SC-51; ComponentLink1Description: Manufacturer Link; ComponentLink1URL: http://sg.renesas.com/fmwk.jsp?cnt=3_terminal_regulators_root.jsp&fp=/products/standard_ic/general_purpose_linear/power_management_linear/3_terminal_regulators/; ComponentLink2Description: Datasheet; ComponentLink2URL: http://documentation.renesas.com/eng/products/linear/rej03d0690_ha179l00.pdf; ComponentLink3Description: Packaging Specification; ComponentLink3URL: http://sg.renesas.com/media/products/common_info/package/pdf/ic/code/prss0003dc_a.pdf
footprint PRSS0003DC-A (TO, Flat Index; 3 In-Line, Axial Leads; Body Dia. 4.8mm; Leads 0.55 x 0.5 mm (max))
pins: 1 Common (power), 2 IN (power), 3 OUT
text: COM

## HA179L15U
designator U?
3-Terminal Positive Fixed Voltage Regulator, 800mW, -15V ± 4% Output, UPAK Package, Commercial Grade; Published: 5-Feb-2010; DatasheetVersion: Rev.3.00, Jan-2009; PackageVersion: Jan-2005; PackageReference: PLZZ0004CA-A; Publisher: Altium Limited; PackageDescription: 3-Pin Plastic SOT-89 Package 1.5 mm Pitch, 4 mm Lead Span; Code_JEITA: SC-62; Code_IPC: SOT89; ComponentLink1Description: Manufacturer Link; ComponentLink1URL: http://sg.renesas.com/fmwk.jsp?cnt=3_terminal_regulators_root.jsp&fp=/products/standard_ic/general_purpose_linear/power_management_linear/3_terminal_regulators/; ComponentLink2Description: Datasheet; ComponentLink2URL: http://documentation.renesas.com/eng/products/linear/rej03d0690_ha179l00.pdf; ComponentLink3Description: Packaging Specification; ComponentLink3URL: http://sg.renesas.com/media/products/common_info/package/pdf/ic/code/plzz0004ca_a.pdf
footprint PLZZ0004CA-A_N (SOT89, 3-Leads, Body 4.5x2.5 mm, Pitch 1.5mm, Lead Span 4mm, IPC Medium Density)
footprint PLZZ0004CA-A_L (SOT89, 3-Leads, Body 4.5x2.5 mm, Pitch 1.5mm, Lead Span 4mm, IPC High Density)
footprint PLZZ0004CA-A_M (SOT89, 3-Leads, Body 4.5x2.5 mm, Pitch 1.5mm, Lead Span 4mm, IPC Low Density)
pins: 1 Common (power), 2 IN (power), 3 OUT
text: COM

## HA16107FP
designator U?
PWM Switching Regulator for High-performance Voltage Mode Control, Timer Latch Protection, 600kHz, Vin (30V), 16-pin SOP; Published: 5-Feb-2010; DatasheetVersion: Rev.4.00, Jun-2005; PackageVersion: Sep-2005; PackageReference: PRSP0016DH-A; Publisher: Altium Limited; PackageDescription: 16-Pin Plastic Small Outline Package 1.27 mm Pitch; Code_JEITA: P-SOP16-5.5x10.06-1.27; ComponentLink1Description: Manufacturer Link; ComponentLink1URL: http://sg.renesas.com/fmwk.jsp?cnt=insulated_swps_root.jsp&fp=/products/standard_ic/general_purpose_linear/power_management_linear/insulated_sw_powersupply/; ComponentLink2Description: Datasheet; ComponentLink2URL: http://documentation.renesas.com/eng/products/linear/rej03f0141_ha16107p.pdf; ComponentLink3Description: Packaging Specification; ComponentLink3URL: http://sg.renesas.com/media/products/common_info/package/pdf/ic/code/prsp0016dh_a.pdf
footprint PRSP0016DH-A_N (SOP, 16-Leads, Body 10.06x5.5mm, Pitch 1.27mm, IPC Medium Density)
footprint PRSP0016DH-A_L (SOP, 16-Leads, Body 10.06x5.5mm, Pitch 1.27mm, IPC High Density)
footprint PRSP0016DH-A_M (SOP, 16-Leads, Body 10.06x5.5mm, Pitch 1.27mm, IPC Low Density)
pins: 1 VIN (in) "Input voltage", 2 OUT (out) "Pulse output", 3 CL (+) "Current limiter", 4 GND (power) "Ground", 5 GND (power) "Ground", 6 RT1 "Timing resistor (rising time)", 7 CT "Timing capacitor", 8 RT2 "Timing resistor (falling time)", 9 VREF (oc) "Reference voltage output", 10 ST "Soft start", 11 IN (+) (in) "Error amp (+) input", 12 GND (power) "Ground", 13 GND (power) "Ground", 14 IN (-) (in) "Error amp (-) input", 15 E/O (out) "Error output", 16 TL "Timer latch"

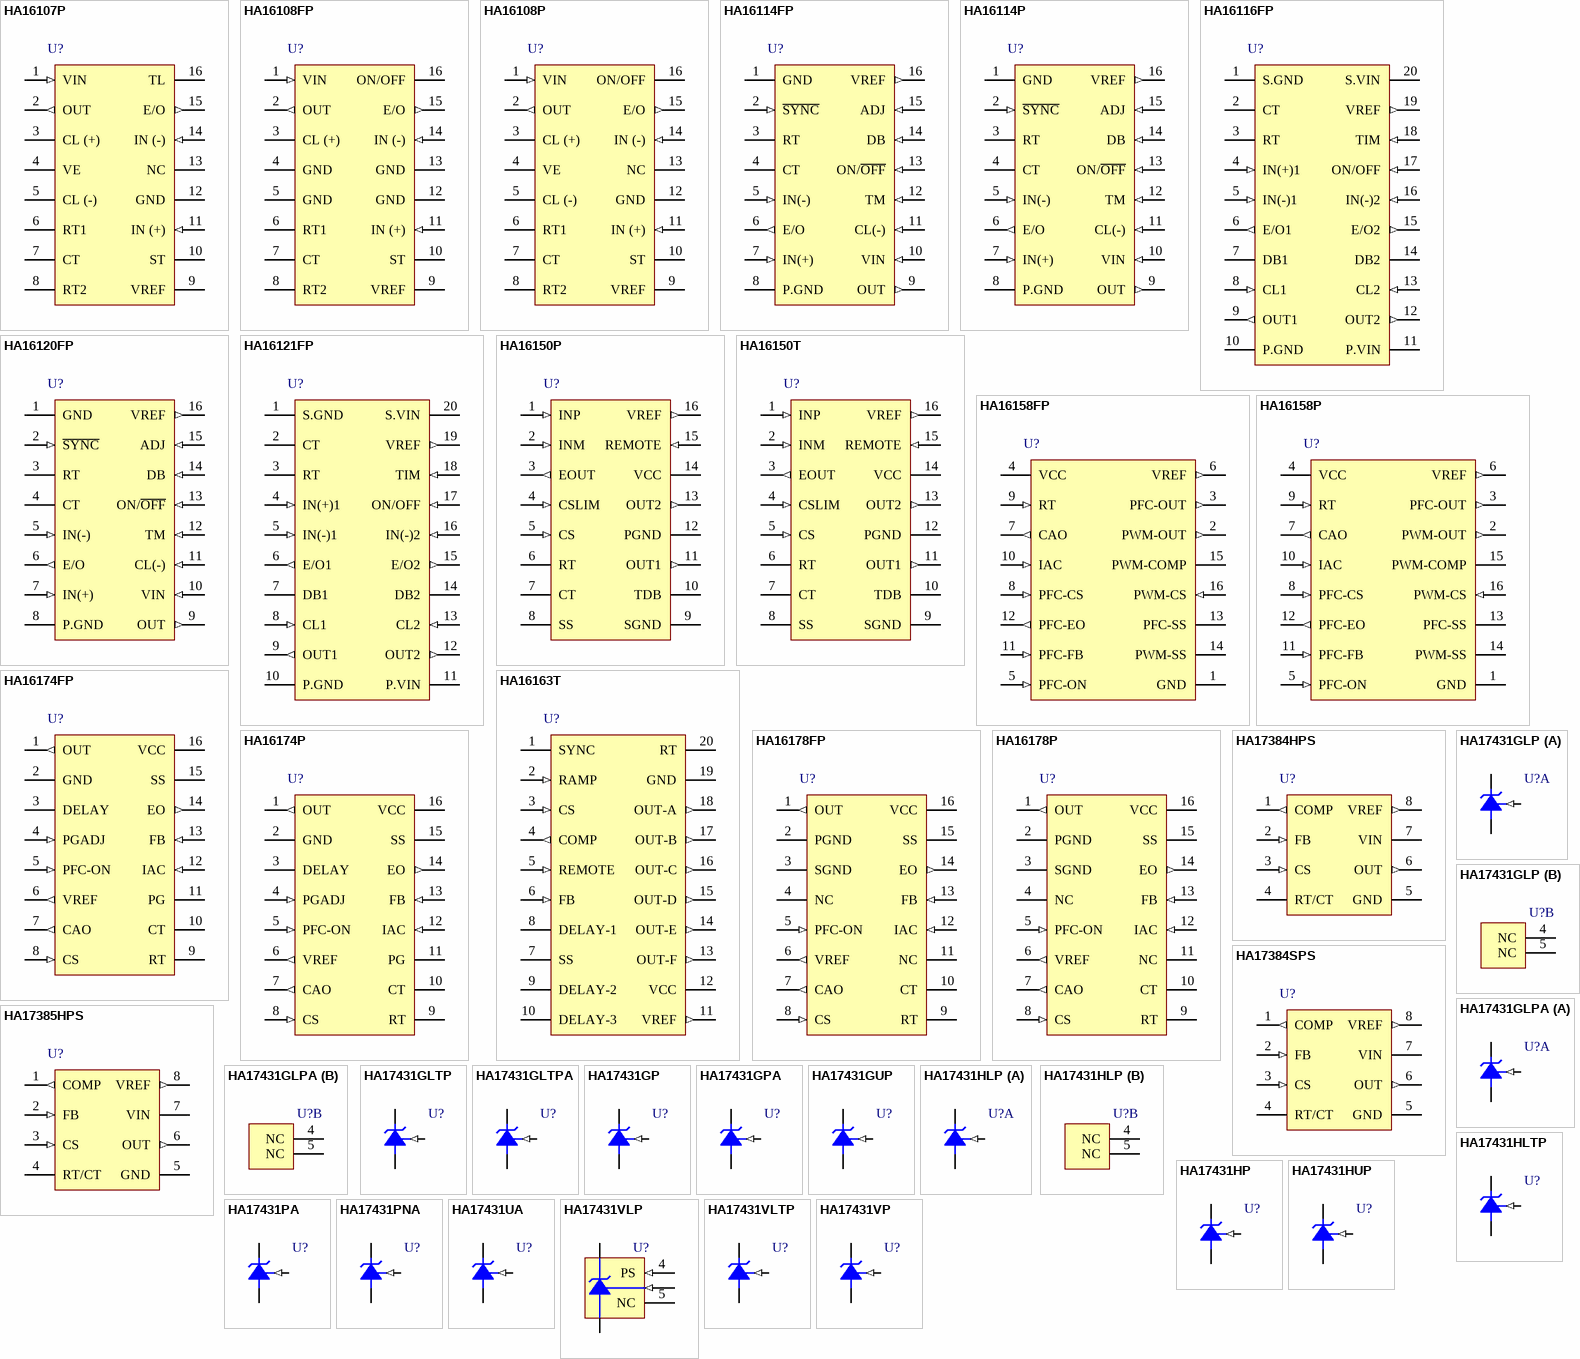
[diagram p1: symbols HA16107P to HA17431VP]

## HA16107P
designator U?
PWM Switching Regulator for High-performance Voltage Mode Control, Timer Latch Protection, 600kHz, Vin (30V), 16-pin DIP; Published: 5-Feb-2010; DatasheetVersion: Rev.4.00, Jun-2005; PackageVersion: Sep-2005; PackageReference: PRDP0016AE-A; Publisher: Altium Limited; PackageDescription: DIP, Plastic, 16-Pin, Row Spacing 7.62 mm, Pitch 2.54 mm; Code_JEITA: P-DIP16-6.3x19.2-2.54; ComponentLink1Description: Manufacturer Link; ComponentLink1URL: http://sg.renesas.com/fmwk.jsp?cnt=insulated_swps_root.jsp&fp=/products/standard_ic/general_purpose_linear/power_management_linear/insulated_sw_powersupply/; ComponentLink2Description: Datasheet; ComponentLink2URL: http://documentation.renesas.com/eng/products/linear/rej03f0141_ha16107p.pdf; ComponentLink3Description: Packaging Specification; ComponentLink3URL: http://sg.renesas.com/media/products/common_info/package/pdf/ic/code/prdp0016ae_a.pdf
footprint PRDP0016AE-A (DIP, 16-Leads, Row Spacing 7.62mm, Pitch 2.54mm, Body 19.2x6.3mm)
pins: 1 VIN (in) "Input voltage", 2 OUT (out) "Pulse output", 3 CL (+) "Current limiter", 4 VE (power) "Output ground", 5 CL (-) "Current limiter", 6 RT1 "Timing resistor (rising time)", 7 CT "Timing capacitor", 8 RT2 "Timing resistor (falling time)", 9 VREF (oc) "Reference voltage output", 10 ST "Soft start", 11 IN (+) (in) "Error amp (+) input", 12 GND (power) "Ground", 13 NC, 14 IN (-) (in) "Error amp (-) input", 15 E/O (out) "Error output", 16 TL "Timer latch"

## HA16108FP
designator U?
PWM Switching Regulator for High-performance Voltage Mode Control, On-Off Timer Protection, 600kHz, Vin (30V), 16-pin SOP; Published: 5-Feb-2010; DatasheetVersion: Rev.4.00, Jun-2005; PackageVersion: Sep-2005; PackageReference: PRSP0016DH-A; Publisher: Altium Limited; PackageDescription: 16-Pin Plastic Small Outline Package 1.27 mm Pitch; Code_JEITA: P-SOP16-5.5x10.06-1.27; ComponentLink1Description: Manufacturer Link; ComponentLink1URL: http://sg.renesas.com/fmwk.jsp?cnt=insulated_swps_root.jsp&fp=/products/standard_ic/general_purpose_linear/power_management_linear/insulated_sw_powersupply/; ComponentLink2Description: Datasheet; ComponentLink2URL: http://documentation.renesas.com/eng/products/linear/rej03f0141_ha16107p.pdf; ComponentLink3Description: Packaging Specification; ComponentLink3URL: http://sg.renesas.com/media/products/common_info/package/pdf/ic/code/prsp0016dh_a.pdf
footprint PRSP0016DH-A_N (SOP, 16-Leads, Body 10.06x5.5mm, Pitch 1.27mm, IPC Medium Density)
footprint PRSP0016DH-A_L (SOP, 16-Leads, Body 10.06x5.5mm, Pitch 1.27mm, IPC High Density)
footprint PRSP0016DH-A_M (SOP, 16-Leads, Body 10.06x5.5mm, Pitch 1.27mm, IPC Low Density)
pins: 1 VIN (in) "Input voltage", 2 OUT (out) "Pulse output", 3 CL (+) "Current limiter", 4 GND (power) "Ground", 5 GND (power) "Ground", 6 RT1 "Timing resistor (rising time)", 7 CT "Timing capacitor", 8 RT2 "Timing resistor (falling time)", 9 VREF (oc) "Reference voltage output", 10 ST "Soft start", 11 IN (+) (in) "Error amp (+) input", 12 GND (power) "Ground", 13 GND (power) "Ground", 14 IN (-) (in) "Error amp (-) input", 15 E/O (out) "Error output", 16 ON/OFF

## HA16108P
designator U?
PWM Switching Regulator for High-performance Voltage Mode Control, On-Off Timer Protection, 600kHz, Vin (30V), 16-pin DIP; Published: 5-Feb-2010; DatasheetVersion: Rev.4.00, Jun-2005; PackageVersion: Sep-2005; PackageReference: PRDP0016AE-A; Publisher: Altium Limited; PackageDescription: DIP, Plastic, 16-Pin, Row Spacing 7.62 mm, Pitch 2.54 mm; Code_JEITA: P-DIP16-6.3x19.2-2.54; ComponentLink1Description: Manufacturer Link; ComponentLink1URL: http://sg.renesas.com/fmwk.jsp?cnt=insulated_swps_root.jsp&fp=/products/standard_ic/general_purpose_linear/power_management_linear/insulated_sw_powersupply/; ComponentLink2Description: Datasheet; ComponentLink2URL: http://documentation.renesas.com/eng/products/linear/rej03f0141_ha16107p.pdf; ComponentLink3Description: Packaging Specification; ComponentLink3URL: http://sg.renesas.com/media/products/common_info/package/pdf/ic/code/prdp0016ae_a.pdf
footprint PRDP0016AE-A (DIP, 16-Leads, Row Spacing 7.62mm, Pitch 2.54mm, Body 19.2x6.3mm)
pins: 1 VIN (in) "Input voltage", 2 OUT (out) "Pulse output", 3 CL (+) "Current limiter", 4 VE (power) "Output ground", 5 CL (-) "Current limiter", 6 RT1 "Timing resistor (rising time)", 7 CT "Timing capacitor", 8 RT2 "Timing resistor (falling time)", 9 VREF (oc) "Reference voltage output", 10 ST "Soft start", 11 IN (+) (in) "Error amp (+) input", 12 GND (power) "Ground", 13 NC, 14 IN (-) (in) "Error amp (-) input", 15 E/O (out) "Error output", 16 ON/OFF